# Altium schematic symbol library MHS12204.SchLib: 1 symbol
Pins are listed as number, name and electrical type; pins without a type are passive.

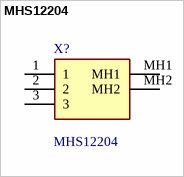
[diagram p0: symbol MHS12204]

## MHS12204
designator X?
Switch; Slide; 2 position; Sigle Pole-Double Throw; Manufacturer_Name: TE Connectivity; Geometry.Height: 12mm; Mouser Part Number: 506-MHS12204; Mouser Price/Stock: https://www.mouser.co.uk/ProductDetail/TE-Connectivity-Alcoswitch/MHS12204?qs=x%2FgbKjZ2T%2FPUluB%2FWhqq0Q%3D%3D; Manufacturer_Part_Number: MHS12204; Datasheet Link: https://www.te.com/commerce/DocumentDelivery/DDEController?Action=srchrtrv&DocNm=1825255&DocType=Customer+Drawing&DocLang=English&DocFormat=pdf&PartCntxt=1825255-1
footprint MHS12204
pins: 1, 2, 3, MH1, MH2